# EAGLE library part BTDR-2 (library mb3_integrated circuits)
Reverb BTDR-2H: http://smallbear-electronics.mybigcommerce.com/belton-btdr-2h-reverb-modules/
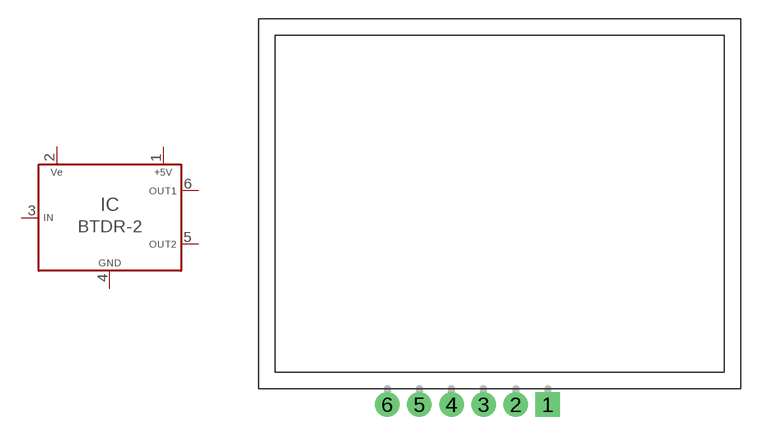
[diagram p5: symbol with the pads of BTDR-2; footprint BTDR-2]

Designator prefix IC

## BTDR-2  [BTDR-2]
1  1
2  2
3  3
4  4
5  5
6  6

## Footprint BTDR-2 (pad centres in mm)
drill 1 pad 1.93 square: 1 5.08,-15.875
drill 1 pad 1.93: 2 2.54,-15.875; 3 0,-15.875; 4 -2.54,-15.875; 5 -5.08,-15.875; 6 -7.62,-15.875